# EAGLE library part LA6583MC-AH (library 2022-03-20_16-15-33_Library)
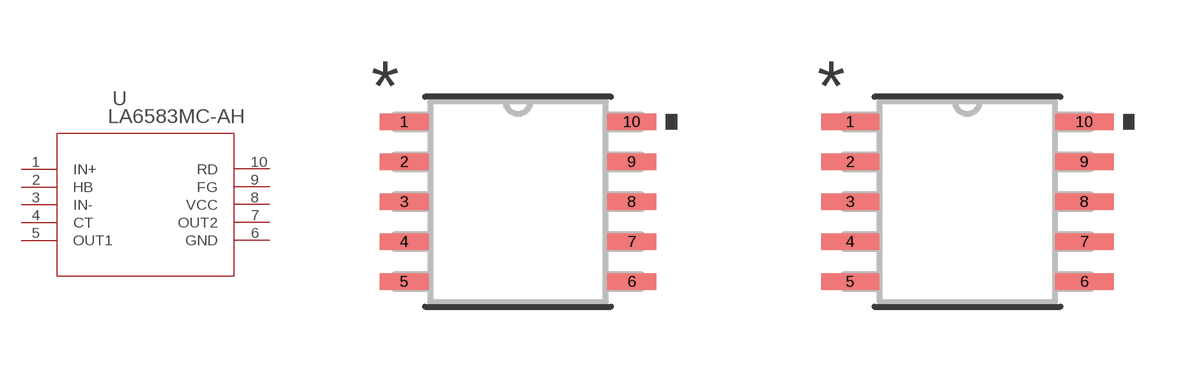
[diagram p0: symbol with the pads of MFP10_4P4X5_ONS; footprints MFP10_4P4X5_ONS, MFP10_4P4X5_ONS-M]

Designator prefix U

## LA6583MC-AHMFP10_4P4X5_ONS (Copyright: Copyright (C) 2022 Ultra Librarian. All rights reserved.; Manufacturer_Part_Number: LA6583MC-AH; Mfr_Name: onsemi)  [MFP10_4P4X5_ONS]
1  IN+  in
2  HB  pas
3  IN-  in
4  CT  pas
5  OUT1  out
6  GND  pwr
7  OUT2  out
8  VCC  pwr
9  FG  pas
10  RD  pas

## LA6583MC-AHMFP10_4P4X5_ONS-M (Copyright: Copyright (C) 2022 Ultra Librarian. All rights reserved.; Manufacturer_Part_Number: LA6583MC-AH; Mfr_Name: onsemi)  [MFP10_4P4X5_ONS-M]
Pads as for MFP10_4P4X5_ONS

## LA6583MC-AHMFP10_4P4X5_ONS-L (Copyright: Copyright (C) 2022 Ultra Librarian. All rights reserved.; Manufacturer_Part_Number: LA6583MC-AH; Mfr_Name: onsemi)  [MFP10_4P4X5_ONS-L]
Pads as for MFP10_4P4X5_ONS

## Footprint MFP10_4P4X5_ONS (pad centres in mm)
smd 1.219 x 0.406: 1 -2.845,2; 2 -2.845,1; 3 -2.845,0; 4 -2.845,-1; 5 -2.845,-2; 6 2.845,-2; 7 2.845,-1; 8 2.845,0; 9 2.845,1; 10 2.845,2

## Footprint MFP10_4P4X5_ONS-M (pad centres in mm)
smd 1.46 x 0.406: 1 -2.927,2; 2 -2.927,1; 3 -2.927,0; 4 -2.927,-1; 5 -2.927,-2; 6 2.927,-2; 7 2.927,-1; 8 2.927,0; 9 2.927,1; 10 2.927,2

## Footprint MFP10_4P4X5_ONS-L (pad centres in mm)
smd 0.914 x 0.356: 1 -2.794,2; 2 -2.794,1; 3 -2.794,0; 4 -2.794,-1; 5 -2.794,-2; 6 2.794,-2; 7 2.794,-1; 8 2.794,0; 9 2.794,1; 10 2.794,2